# EAGLE library part LTC5536ES6TRMPBF (library U-Linear-RF-detecter-600-7000MHz)
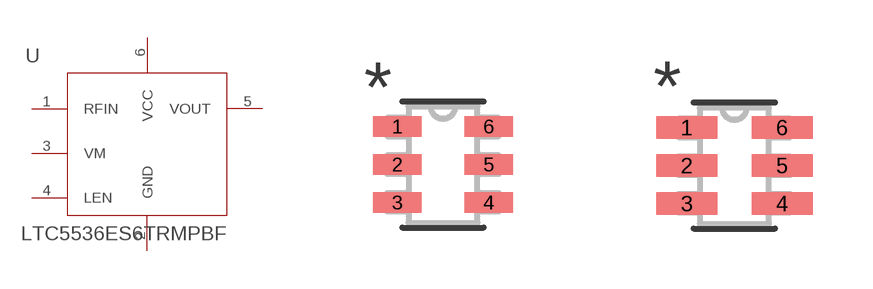
[diagram p0: symbol with the pads of TSOT-23_S6; footprints TSOT-23_S6, TSOT-23_S6-M]

Designator prefix U

## LTC5536ES6TRMPBF (MFR: Linear Technology; MPN: LTC5536; VALUE: LTC5536)  [TSOT-23_S6]
1  RFIN  in
2  GND  pwr
3  VM  in
4  LEN  in
5  VOUT  out
6  VCC  pwr

## LTC5536ES6TRMPBFTSOT-23_S6-M (MANUFACTURER_PART_NUMBER: LTC5536ES6#TRMPBF; VENDOR: Linear Technology)  [TSOT-23_S6-M]
Pads as for TSOT-23_S6

## LTC5536ES6TRMPBFTSOT-23_S6-L (MANUFACTURER_PART_NUMBER: LTC5536ES6#TRMPBF; VENDOR: Linear Technology)  [TSOT-23_S6-L]
Pads as for TSOT-23_S6

## Footprint TSOT-23_S6 (pad centres in mm)
smd 1.219 x 0.508: 1 -1.143,0.95; 2 -1.143,0; 3 -1.143,-0.95; 4 1.143,-0.95; 5 1.143,0; 6 1.143,0.95

## Footprint TSOT-23_S6-M (pad centres in mm)
smd 1.524 x 0.559: 1 -1.194,0.95; 2 -1.194,0; 3 -1.194,-0.95; 4 1.194,-0.95; 5 1.194,0; 6 1.194,0.95

## Footprint TSOT-23_S6-L (pad centres in mm)
smd 0.914 x 0.457: 1 -1.092,0.95; 2 -1.092,0; 3 -1.092,-0.95; 4 1.092,-0.95; 5 1.092,0; 6 1.092,0.95